# Altium footprint library CON 5_Pin_Mate_n_Lock.PcbLib: 1 footprints
Each footprint in its own frame and in the unit in brackets; x right, y up, seen from the top. Pads: shape width x height; smd on the part's side, far side on the other; paste and mask are expansions set on the pad; w line width, h text height; cw(c..) or ccw(c..) is an arc to the next point about the centre after c.
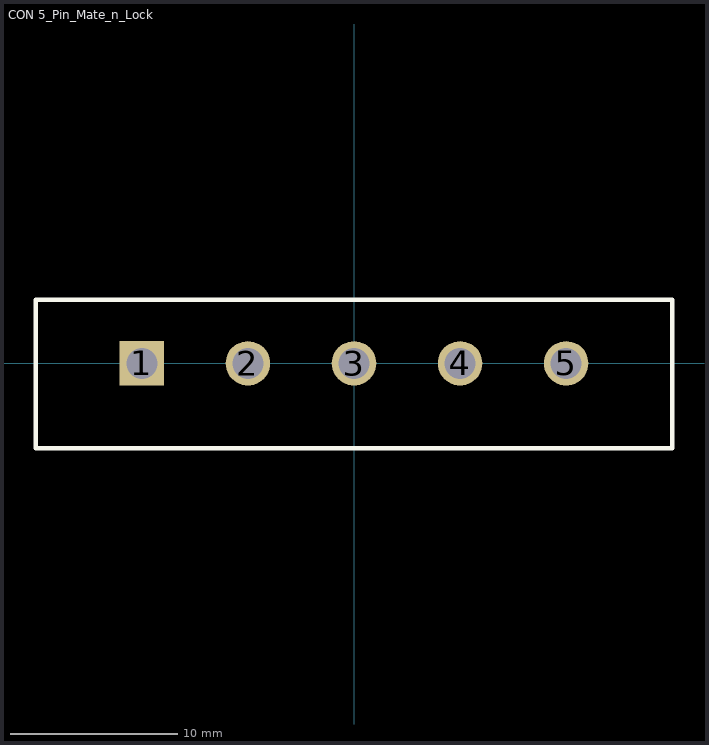
[diagram p0: the footprint, top view; thin cyan lines are the x and y axes]

## CON 5_Pin_Mate_n_Lock [mil]
pads (5):
  rect 105x105 hole 73: 1(-500,0)
  round 105 hole 73: 2(-250,0) 3(0,0) 4(250,0) 5(500,0)
Top Overlay:
  lines w10: -750,-200 750,-200 750,150 -750,150 -750,-200
3D body: height 578.5, standoff -145, extent -750,-200 750,150